# Altium schematic symbol library BQ21040DBVR.SchLib: 1 symbol
Pins are listed as number, name and electrical type; pins without a type are passive.

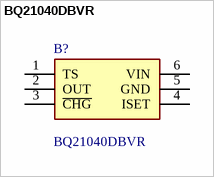
[diagram p0: symbol BQ21040DBVR]

## BQ21040DBVR
designator B?
0.8A Single Input Single-Cell Li-Ion and Li-Pol Battery Charger; Manufacturer_Name: Texas Instruments; Geometry.Height: 1.45mm; Mouser Part Number: 595-BQ21040DBVR; Mouser Price/Stock: https://www.mouser.co.uk/ProductDetail/Texas-Instruments/BQ21040DBVR?qs=cttFivMKqWyovUuY6Xwwcw%3D%3D; Manufacturer_Part_Number: BQ21040DBVR; Datasheet Link: http://www.ti.com/lit/gpn/bq21040
footprint SOT95P280X145-6N
pins: 1 TS, 2 OUT, 3 ~{CHG}, 4 ISET, 5 GND, 6 VIN